# Altium footprint library PcbLib_tiny_dot.PcbLib: 8 footprints
Each footprint in its own frame and in the unit in brackets; x right, y up, seen from the top. Pads: shape width x height; smd on the part's side, far side on the other; paste and mask are expansions set on the pad; w line width, h text height; cw(c..) or ccw(c..) is an arc to the next point about the centre after c.
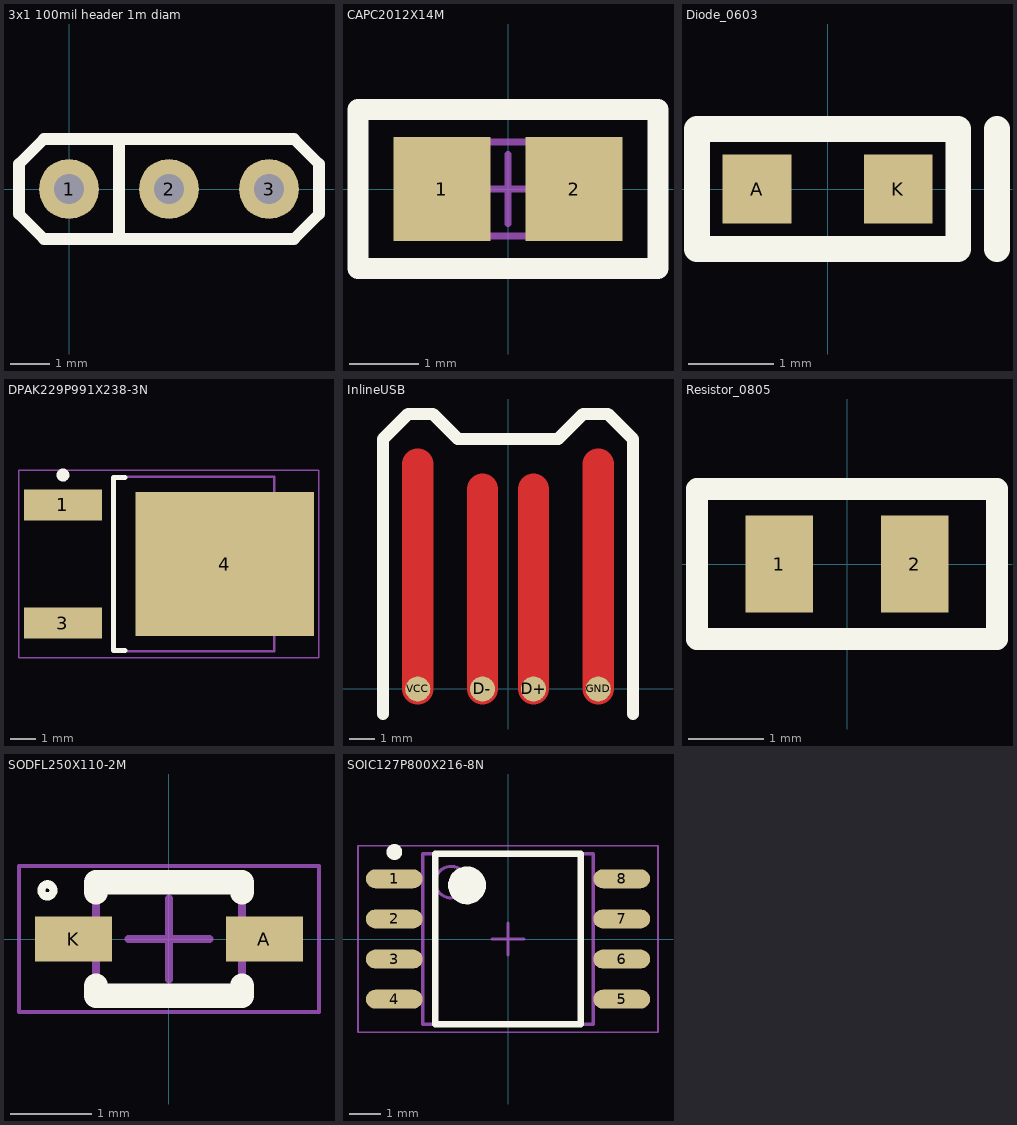
[diagram p0: the footprints below, top view; thin cyan lines are the x and y axes]

## 3x1 100mil header 1m diam [mil]
pads (3):
  round 60 hole 30: 1(0,0) 2(100,0) 3(200,0)
Top Overlay:
  lines w11.81: 50,-50 50,50 -25,50 ; -25,50 -50,25 -50,-25 -25,-50 225,-50 250,-25 250,25 225,50 -25,50

## CAPC2012X14M [mm] "Chip Capacitor, 2-Leads, Body 2.00x1.25mm, IPC Low Density"
height 1.35
pads (2):
  rect 1.4x1.5 smd: 1(-0.95,0) 2(0.95,0)
Top Overlay:
  lines w0.3: -2.159,-1.143 2.159,-1.143 2.159,1.143 -2.159,1.143 -2.159,-1.143
Mechanical 13:
  lines w0.1: -1.05,-0.675 -1.05,0.675 1.05,0.675 1.05,-0.675 -1.05,-0.675
Mechanical 15:
  lines w0.05: -2.15,-1.25 -2.15,1.25 2.15,1.25 2.15,-1.25 -2.15,-1.25
  lines w0.1: -0.5,0 0.5,0 ; 0,-0.5 0,0.5
3D body "CAPC2012X14M.step": height 1.35, standoff 0, extent -1.05,-0.675 1.05,0.675

## Diode_0603 [mm]
pads (2):
  rect 0.8x0.8 smd: A(-0.825,0) K(0.825,0)
Top Overlay:
  lines w0.3: 1.975,-0.7 1.975,0.7 ; -1.525,-0.7 1.524,-0.7 1.524,0.7 -1.525,0.7 -1.525,-0.7
3D body: height 0.55, standoff 0, extent -0.6,-0.381 0.6,0.4
3D body: height 0.18, standoff 0, extent -0.8,-0.381 -0.6,0.4
3D body: height 0.18, standoff 0, extent 0.6,-0.381 0.8,0.4

## DPAK229P991X238-3N [mm] "D-PAK, 3-Pads, Body 6.21x6.73mm (max), IPC Medium Density"
height 2.38
pads (3):
  rect 3x1.2 smd: 1(-42.95,18.32) 3(-42.95,13.74)
  rect 6.9x5.55 smd: 4(-36.7,16.03)
Top Overlay:
  circle w0.25: c-42.95,19.47 r0.125
  lines w0.2: -40.55,12.68 -41,12.68 -41,19.38 -40.55,19.38
Mechanical 13:
  lines w0.1: -41,12.655 -34.78,12.655 -34.78,19.405 -41,19.405 -41,12.655
Mechanical 15:
  lines w0.05: -44.65,12.405 -33.05,12.405 -33.05,19.655 -44.65,19.655 -44.65,12.405
  lines w0.1: -39.35,16.03 -38.35,16.03 ; -38.85,15.53 -38.85,16.53
3D body "DPAK229P991X238-3N.step": height 2.38, standoff 0, extent -43.04,12.655 -33.135,19.405

## InlineUSB [mm]
pads (4):
  round 1 smd: D+(1.02,0) D-(-1.02,0) GND(3.61,0) VCC(-3.61,0)
Top Layer:
  lines w1.25: -3.61,0 -3.61,9 ; -1.02,0 -1.02,8 ; 1.02,0 1.02,8 ; 3.61,0 3.61,9
Top Overlay:
  lines w0.5: -5,-1 -5,9 -5,10 -4,11 -3,11 -2,10 2,10 3,11 4,11 5,10 5,-1

## Resistor_0805 [mm]
pads (2):
  rect 0.9x1.3 smd: 1(-0.9,0) 2(0.9,0)
Top Overlay:
  lines w0.3: -2,-1 -2,-0.3 -2,1 2,1 2,-1 -2,-1
3D body: height 0.65, standoff 0, extent -0.65,-0.625 0.65,0.625
3D body: height 0.65, standoff 0, extent -1,-0.625 -0.65,0.625
3D body: height 0.65, standoff 0, extent 0.65,-0.625 1,0.625

## SODFL250X110-2M [mm] "SODFL, 2-Leads, Body 1.25x2.50mm, IPC Low Density"
height 1.1
pads (2):
  rect 0.95x0.55 smd: A(1.175,0) K(-1.175,0)
Top Overlay:
  circle w0.1: c-1.5,0.6 r0.075
  lines w0.3: -0.9,-0.575 -0.9,-0.7 0.9,-0.7 0.9,-0.575 ; -0.9,0.575 -0.9,0.7 0.9,0.7 0.9,0.575
Mechanical 13:
  lines w0.1: -0.9,-0.675 0.9,-0.675 0.9,0.675 -0.9,0.675 -0.9,-0.675
Mechanical 15:
  lines w0.05: -1.85,-0.9 1.85,-0.9 1.85,0.9 -1.85,0.9 -1.85,-0.9
  lines w0.1: -0.5,0 0.5,0 ; 0,-0.5 0,0.5
3D body "SODFL250X110-2M.step": height 1.1, standoff 0, extent -1.25,-0.675 1.25,0.675

## SOIC127P800X216-8N [mm] "SOIC, 8-Leads, Body 5.24x5.29mm, Pitch 1.27mm, IPC Medium Density"
height 2.16
pads (8):
  oval 1.8x0.6 smd: 1(-3.6,1.905) 2(-3.6,0.635) 3(-3.6,-0.635) 4(-3.6,-1.905) 5(3.6,-1.905) 6(3.6,-0.635) 7(3.6,0.635) 8(3.6,1.905)
Top Overlay:
  circle w0.25: c-3.6,2.755 r0.125
  circle w0.6: c-1.3,1.7 r0.3
  lines w0.2: -2.3,-2.7 -2.3,2.7 2.3,2.7 2.3,-2.7 -2.3,-2.7
Mechanical 13:
  circle w0.1: c-1.8,1.8 r0.5
  lines w0.1: -2.7,-2.7 -2.7,2.7 2.7,2.7 2.7,-2.7 -2.7,-2.7
Mechanical 15:
  lines w0.05: -4.75,-2.95 -4.75,2.95 4.75,2.95 4.75,-2.95 -4.75,-2.95
  lines w0.1: -0.5,0 0.5,0 ; 0,-0.5 0,0.5
3D body "SOIC127P800X216-8N.step": height 2.16, standoff 0, extent -3.99,-2.7 3.99,2.7